# EAGLE library part LT3751 (library Xenon)
High Voltage Capacitor Charger Controller with Regulation
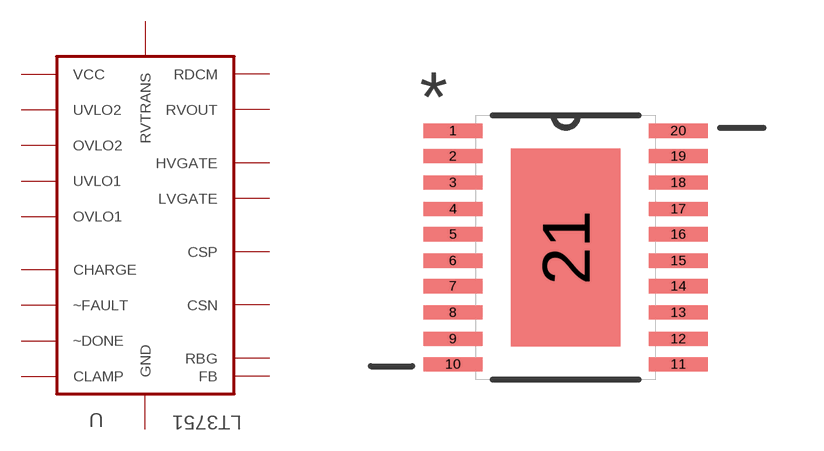
[diagram p3: symbol with the pads of SOP65P640X120-21N; footprint SOP65P640X120-21N]

Designator prefix U

## LT3751 (AVAILABILITY: Good; DESCRIPTION: LT3751 Capacitor Charge Control TSSOP-20; MF: Linear Technology; MP: LT3751EFE#PBF; PACKAGE: TSSOP-20 Linear Technology; PRICE: 5.83 USD)  [SOP65P640X120-21N]
1  RVTRANS  in
2  UVLO1  in
3  OVLO1  in
4  UVLO2  in
5  OVLO2  in
6  ~FAULT  pas
7  ~DONE  pas
8  CHARGE  in
9  CLAMP  in
10  FB  in
11  CSN  in
12  CSP  in
13  VCC  pwr
14  LVGATE  pas
15  HVGATE  pas
16  RBG  pas
18  RVOUT  in
20  RDCM  in
21  GND  pas

## Footprint SOP65P640X120-21N (pad centres in mm)
smd 1.473 x 0.356: 1 -2.819,2.921; 2 -2.819,2.286; 3 -2.819,1.626; 4 -2.819,0.965; 5 -2.819,0.33; 6 -2.819,-0.33; 7 -2.819,-0.965; 8 -2.819,-1.626; 9 -2.819,-2.286; 10 -2.819,-2.921; 11 2.819,-2.921; 12 2.819,-2.286; 13 2.819,-1.626; 14 2.819,-0.965; 15 2.819,-0.33; 16 2.819,0.33; 17 2.819,0.965; 18 2.819,1.626; 19 2.819,2.286; 20 2.819,2.921
smd 2.743 x 4.953: 21 0,0